# Altium schematic symbol library ToradexMainBoard-V0I1.SCHLIB: 303 symbols (part 10 of 14)
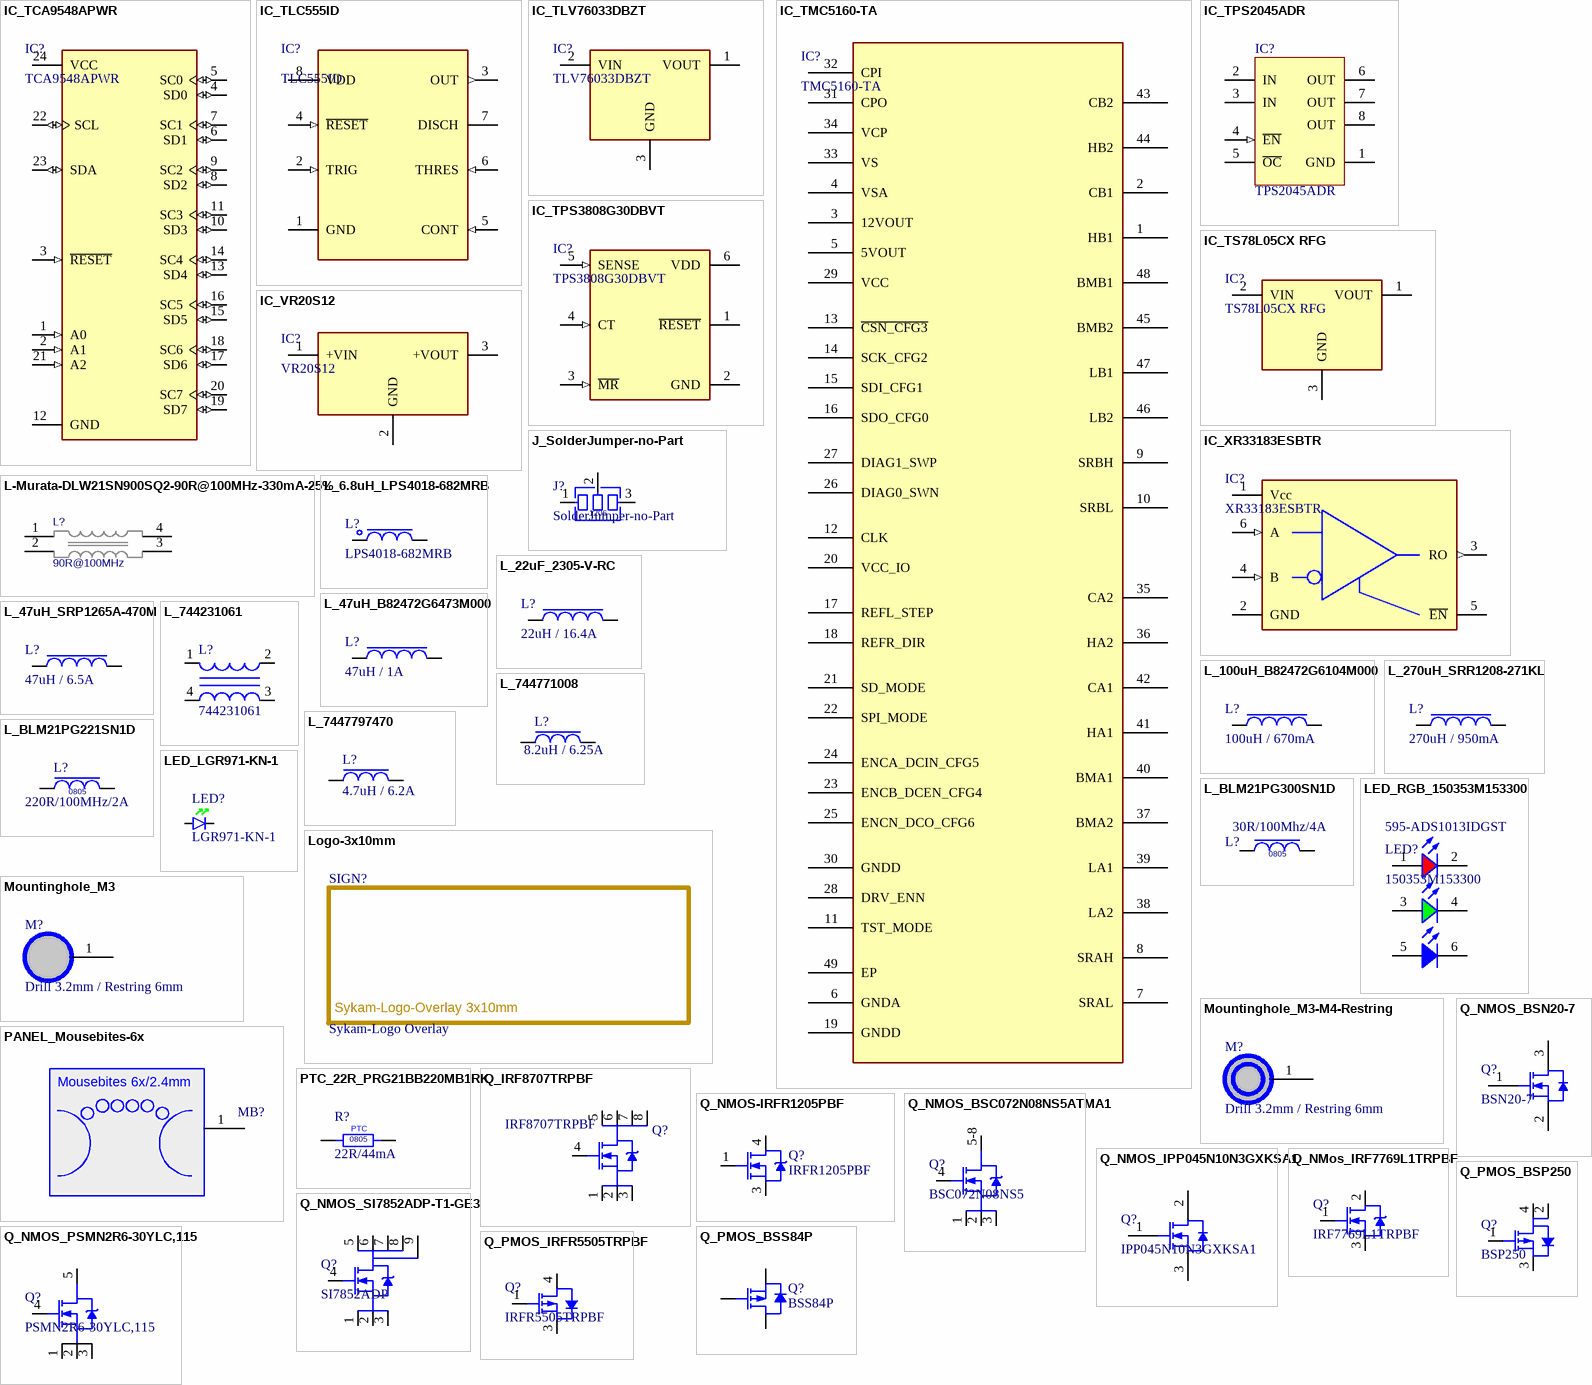
[diagram p24: symbols IC_TCA9548APWR to Q_PMOS_IRFR5505TRPBF]

## L_47uH_SRP1265A-470M
designator L?, comment 47uH / 6.5A
FIXED IND 47UH 6.5A 90 MOHM SMD; Manufacturer: Bourns; Manufacturer Part Number: SRP1265A-470M; Core Material: Ferrite,Carbonyl Powder; Saturation Current: 9.5A; Shielding: Shielded; DC Resistance (DCR): 90mR; Self Resonant Frequency: 4MHz; Test Frequency: 100kHz; Tolerance: 20%; Q Factor: 20; Supplier 1: Farnell; RoHS: Yes; Category: Fixed Inductors; Stock 1: 517; Pricing 1: 1=1,70000, 10=1,24000, 50=1,05000, 100=0,94300, 200=0,81000, 500=0,79900, 2500=0,76500 (EUR); Mount: Surface Mount; Case/Package: Nonstandard; Min Operating Temperature: -40°C; Max Operating Temperature: 150°C; Resistor Type: Wirewound; Inductance: 47uH; Current Rating: 6.5A; RMS Current (Irms): 6.5A; Max DC Current: 6.5A; Termination: SMD/SMT; Packaging: Tape and Reel; Inductance Tolerance: 20%; Package Quantity: 500; Length: 13.5mm; Width: 12.5mm; Height: 6.2mm; Height - Seated (Max): 0.252inch; Depth: 12.5mm; Ratings: AEC-Q200; REACH SVHC: No SVHC; ComponentLink1URL: https://datasheet.ciiva.com/48684/srp1265a-48684885.pdf?src-supplier=Avnet; ComponentLink1Description: https://datasheet.ciiva.com/48684/srp1265a-48684885.pdf?src-supplier=Avnet; ComponentLink2URL: https://datasheet.ciiva.com/46437/1828825-46437462.pdf?src-supplier=Element14; ComponentLink2Description: https://datasheet.ciiva.com/46437/1828825-46437462.pdf?src-supplier=Element14; Supplier Part Number 1: 2434080
footprint L_SRP1265A
pins: 1, 2

## L_100uH_B82472G6104M000
designator L?, comment 100uH / 670mA
EPCOS         B82472G6104M000             Surface Mount Power Inductor, B82472G6 Series, 100 H, 670 mA, 550 mA, Shielded, 0.39 ohm; Manufacturer: TDK EPCOS; Core Material: Ferrite; Tolerance: 20%; DC Resistance (DCR): 390mR; Test Frequency: 100kHz; Saturation Current: 550mA; Supplier 1: Farnell; Manufacturer Part Number: B82472G6104M000; RoHS: Yes; Category: Fixed Inductors; Stock 1: 2650; Pricing 1: 1=1,45000, 50=0,79700, 100=0,74200, 250=0,66900, 500=0,56800, 1000=0,48900, 5000=0,47800 (EUR); Mount: Surface Mount; Case/Package: SMD/SMT; Number of Pins: 2; Packaging: Cut Tape; Shielding: Shielded; Inductance: 100uH; DC Current: 670mA; Max DC Current: 670mA; Inductance Tolerance: 20%; RMS Current (Irms): 670mA; Inductor Type: POWER; Length: 7.5mm; Depth: 7.5mm; Military Standard: Not; REACH SVHC: No SVHC; RoHS Compliant: Yes; ComponentLink1URL: https://datasheet.ciiva.com/8003/78362-8003415.pdf?src-supplier=Element14; ComponentLink1Description: https://datasheet.ciiva.com/8003/78362-8003415.pdf?src-supplier=Element14; ComponentLink2URL: https://datasheet.ciiva.com/22700/1899161-22700807.pdf?src-supplier=Element14; ComponentLink2Description: https://datasheet.ciiva.com/22700/1899161-22700807.pdf?src-supplier=Element14; Supplier Part Number 1: 1644570
footprint L_B82472G6104M000
pins: 1, 2

## L_270uH_SRR1208-271KL
designator L?, comment 270uH / 950mA
Inductor Power Shielded Wirewound 270uH 10% 1KHz 13Q-Factor Ferrite 950mA 400mOhm DCR T/R; Manufacturer: Bourns; Manufacturer Part Number: SRR1208-271KL; Saturation Current: 1.25A; DC Resistance (DCR): 400mR; Q Factor: 13; Self Resonant Frequency: 2MHz; Supplier 1: Farnell; RoHS: Yes; Category: Fixed Inductors; Stock 1: 3; Pricing 1: 1=0,27700 (EUR); Mount: Surface Mount; Case/Package: 1208; Number of Pins: 2; Core Material: Ferrite; Min Operating Temperature: -40°C; Max Operating Temperature: 125°C; Package Quantity: 400; Current Rating: 950mA; Resistor Type: Wirewound; Inductance: 270uH; Test Frequency: 1kHz; Max DC Current: 950mA; Termination: SMD/SMT; RMS Current (Irms): 950mA; DC Current: 950mA; Inductance Tolerance: 10%; Tolerance: 10%; Packaging: Tape and Reel; Shielding: Shielded; Length: 0.5inch; Width: 0.5inch; Height: 8.5mm; Height - Seated (Max): 0.335inch; Depth: 13mm; REACH SVHC: No SVHC; Military Standard: Not; ComponentLink1URL: https://datasheet.ciiva.com/15025/srr1208-15025095.pdf?src-supplier=Digi-Key; ComponentLink1Description: https://datasheet.ciiva.com/15025/srr1208-15025095.pdf?src-supplier=Digi-Key; ComponentLink2URL: https://datasheet.ciiva.com/15025/srr1208-15025096.pdf?src-supplier=Digi-Key; ComponentLink2Description: https://datasheet.ciiva.com/15025/srr1208-15025096.pdf?src-supplier=Digi-Key; ComponentLink3URL: https://datasheet.ciiva.com/22717/1483756-22717964.pdf?src-supplier=Element14; ComponentLink3Description: https://datasheet.ciiva.com/22717/1483756-22717964.pdf?src-supplier=Element14; ComponentLink4URL: https://datasheet.ciiva.com/48684/srr1208-48684550.pdf?src-supplier=Avnet; ComponentLink4Description: https://datasheet.ciiva.com/48684/srr1208-48684550.pdf?src-supplier=Avnet; ComponentLink5URL: https://datasheet.ciiva.com/1072/srr1208-1072506.pdf?src-supplier=Digi-Key; ComponentLink5Description: https://datasheet.ciiva.com/1072/srr1208-1072506.pdf?src-supplier=Digi-Key; Supplier Part Number 1: 2333699
footprint L_SRR1208_271KL
pins: 1, 2

## L_744231061
designator L?, comment 744231061
CMC 400MA 2LN 67 OHM SMD; Manufacturer: Wurth Electronics; Core Material: Ferrite; Number of Lines: 2; Tolerance: 25%; Inductance: 22H; DC Resistance (DCR): 250mR; Test Frequency: 100MHz; Voltage Rating (DC): 50V; Impedance: 67R; Supplier 1: Farnell; Manufacturer Part Number: 744231061; RoHS: Yes; Category: Common Mode Chokes; Stock 1: 249; Pricing 1: 1=1,24000, 5=1,08000, 10=0,97900, 20=0,89800, 40=0,73400 (EUR); Mount: Surface Mount; Case/Package: 0805; Weight: 0.000423oz; Min Operating Temperature: -40°C; Max Operating Temperature: 125°C; Packaging: Tape and Reel; Package Quantity: 1; Current: 400mA; Max DC Current: 400mA; Termination: SMD/SMT; Current Rating: 400mA; Frequency: 100MHz; Voltage Rating: 50V; Resistance: 250mR; Max Current Rating: 400mA; Length: 2mm; Height: 1.2mm; Width: 1.2mm; Depth: 1.2mm; REACH SVHC: No SVHC; ComponentLink1URL: https://datasheet.ciiva.com/6216/744231061-6216464.pdf?src-supplier=Digi-Key; ComponentLink1Description: https://datasheet.ciiva.com/6216/744231061-6216464.pdf?src-supplier=Digi-Key; ComponentLink2URL: https://datasheet.ciiva.com/1467/1735607-1467970.pdf?src-supplier=Element14; ComponentLink2Description: https://datasheet.ciiva.com/1467/1735607-1467970.pdf?src-supplier=Element14; ComponentLink3URL: https://datasheet.ciiva.com/4952/744231061-89338-4952355.pdf?src-supplier=Mouser; ComponentLink3Description: https://datasheet.ciiva.com/4952/744231061-89338-4952355.pdf?src-supplier=Mouser; ComponentLink4URL: https://datasheet.ciiva.com/1562/68856-1562745.pdf?src-supplier=Newark; ComponentLink4Description: https://datasheet.ciiva.com/1562/68856-1562745.pdf?src-supplier=Newark; ComponentLink5URL: https://datasheet.ciiva.com/25631/0900766b811a4271-25631069.pdf?src-supplier=RSComponents; ComponentLink5Description: https://datasheet.ciiva.com/25631/0900766b811a4271-25631069.pdf?src-supplier=RSComponents; ComponentLink6URL: https://datasheet.ciiva.com/14187/744231061-eng-tds-14187414.pdf?src-supplier=Distrelec; ComponentLink6Description: https://datasheet.ciiva.com/14187/744231061-eng-tds-14187414.pdf?src-supplier=Distrelec; ComponentLink7URL: https://datasheet.ciiva.com/6216/744231061-6216460.pdf?src-supplier=Digi-Key; ComponentLink7Description: https://datasheet.ciiva.com/6216/744231061-6216460.pdf?src-supplier=Digi-Key; ComponentLink8URL: https://datasheet.ciiva.com/6216/744231061-6216462.pdf?src-supplier=Digi-Key; ComponentLink8Description: https://datasheet.ciiva.com/6216/744231061-6216462.pdf?src-supplier=Digi-Key; ComponentLink9URL: https://datasheet.ciiva.com/48691/001087374-da-01-ml-we-cnsw-stromk-smd-line-filter-744-de-en-48691398.pdf?src-supplier=Conrad; ComponentLink9Description: https://datasheet.ciiva.com/48691/001087374-da-01-ml-we-cnsw-stromk-smd-line-filter-744-de-en-48691398.pdf?src-supplier=Conrad; Supplier Part Number 1: 1636468
footprint WE-CNSW-0805 (SMD Inductor, 4-Leads, Body 1.4 x 2.2 mm)
pins: 1, 2, 3, 4

## L_744771008
designator L?, comment 8.2uH / 6.25A
Inductor, SMD 8.2 uH 6.25 A ±20%, 744771008, Würth Elektronik; Manufacturer: Wurth Electronics; Core Material: Ferrite; Shielding: Shielded; Self Resonant Frequency: 25MHz; Resistance: 20mR; Test Frequency: 1kHz; Supplier 1: Farnell; Manufacturer Part Number: 744771008; RoHS: Yes; Category: Fixed Inductors; Stock 1: 675; Pricing 1: 1=2,49000, 5=2,20000, 10=1,90000, 20=1,73000, 40=1,55000, 100=1,27000, 500=1,10000 (EUR); Mount: Surface Mount; Case/Package: Nonstandard; Weight: 0.01lb; Min Operating Temperature: -40°C; Max Operating Temperature: 125°C; Package Quantity: 500; Current Rating: 6.25A; Saturation Current: 6.25A; Tolerance: 20%; Packaging: Tape and Reel; Inductance Tolerance: 20%; Inductance: 8.2uH; Resistor Type: Wirewound; DC Resistance (DCR): 20mR; Max DC Current: 6.25A; Termination: SMD/SMT; RMS Current (Irms): 6.25A; Series Resistance: 20mR; Length: 12mm; Height: 6mm; Width: 12mm; Height - Seated (Max): 0.236inch; Depth: 12mm; REACH SVHC: Unknown; Lead Free: Lead Free; ComponentLink1URL: https://datasheet.ciiva.com/1052/744771008-1052275.pdf?src-supplier=Digi-Key; ComponentLink1Description: https://datasheet.ciiva.com/1052/744771008-1052275.pdf?src-supplier=Digi-Key; ComponentLink2URL: https://datasheet.ciiva.com/4954/744771008-28897-4954803.pdf?src-supplier=Mouser; ComponentLink2Description: https://datasheet.ciiva.com/4954/744771008-28897-4954803.pdf?src-supplier=Mouser; ComponentLink3URL: https://datasheet.ciiva.com/30489/0900766b81281ba3-30489743.pdf?src-supplier=RSComponents; ComponentLink3Description: https://datasheet.ciiva.com/30489/0900766b81281ba3-30489743.pdf?src-supplier=RSComponents; ComponentLink4URL: https://datasheet.ciiva.com/1052/744771008-1052276.pdf?src-supplier=Digi-Key; ComponentLink4Description: https://datasheet.ciiva.com/1052/744771008-1052276.pdf?src-supplier=Digi-Key; ComponentLink5URL: https://datasheet.ciiva.com/1052/744771008-1052277.pdf?src-supplier=Digi-Key; ComponentLink5Description: https://datasheet.ciiva.com/1052/744771008-1052277.pdf?src-supplier=Digi-Key; ComponentLink6URL: https://datasheet.ciiva.com/26307/744771008-eng-tds-26307964.pdf?src-supplier=Distrelec; ComponentLink6Description: https://datasheet.ciiva.com/26307/744771008-eng-tds-26307964.pdf?src-supplier=Distrelec; Supplier Part Number 1: 1635905
footprint 744771008-WE-PD-L (SMD Inductor, 2-Leads, Body 12.0 x 12.0 mm)
pins: 1, 2

## L_7447797470
designator L?, comment 4.7uH / 6.2A
WURTH ELEKTRONIK - 7447797470 - Power Inductor (SMD), 4.7 µH, 6.2 A, Shielded, 8 A, WE-PDF Series, 10.2mm x 10.2mm x 4.5mm - Power Inductor (SMD), 4.7 µH, 6.2 A, Shielded, 8 A, WE-PDF Series, 10.2mm x 10.2mm x 4.5mm; Manufacturer: Wurth Electronics; Core Material: Metal,Composite,Ferrite; Tolerance: 20%; Self Resonant Frequency: 45MHz; Saturation Current: 8A; DC Resistance (DCR): 19.5mR; Test Frequency: 100kHz; Max DC Current: 5.8A; Supplier 1: Farnell; Manufacturer Part Number: 7447797470; RoHS: Yes; Category: Fixed Inductors; Stock 1: 245; Pricing 1: 1=3,18000, 5=2,76000, 10=2,33000, 20=2,29000, 40=2,25000, 100=1,93000, 500=1,69000 (EUR); Mount: Surface Mount; Case/Package: Nonstandard; Min Operating Temperature: -40°C; Max Operating Temperature: 150°C; Inductance: 4.7uH; Inductance Tolerance: 20%; Package Quantity: 500; Current Rating: 6.2A; Shielding: Shielded; Packaging: Cut Tape; Resistor Type: Wirewound; RMS Current (Irms): 6.2A; Length: 0.402inch; Height: 4.5mm; Width: 0.402inch; Height - Seated (Max): 0.177inch; Depth: 10.2mm; REACH SVHC: Unknown; Lead Free: Lead Free; ComponentLink1URL: https://datasheet.ciiva.com/11803/0900766b80d8967e-11803072.pdf?src-supplier=RSComponents; ComponentLink1Description: https://datasheet.ciiva.com/11803/0900766b80d8967e-11803072.pdf?src-supplier=RSComponents; ComponentLink2URL: https://datasheet.ciiva.com/1059/7447797470-1059286.pdf?src-supplier=Digi-Key; ComponentLink2Description: https://datasheet.ciiva.com/1059/7447797470-1059286.pdf?src-supplier=Digi-Key; ComponentLink3URL: https://datasheet.ciiva.com/5975/530533-5975593.pdf?src-supplier=Farnell; ComponentLink3Description: https://datasheet.ciiva.com/5975/530533-5975593.pdf?src-supplier=Farnell; ComponentLink4URL: https://datasheet.ciiva.com/1059/7447797470-1059287.pdf?src-supplier=Digi-Key; ComponentLink4Description: https://datasheet.ciiva.com/1059/7447797470-1059287.pdf?src-supplier=Digi-Key; ComponentLink5URL: https://datasheet.ciiva.com/1059/7447797470-1059288.pdf?src-supplier=Digi-Key; ComponentLink5Description: https://datasheet.ciiva.com/1059/7447797470-1059288.pdf?src-supplier=Digi-Key; Supplier Part Number 1: 1800270
footprint 7447797470-WE-PDF-1045 (SMD Inductor, 2-Leads, Body 10.2 x 10.2 mm)
pins: 1, 2

## L_BLM21PG221SN1D
designator L?, comment 220R/100MHz/2A
Ferrite Beads Multi-Layer 220Ohm 25% 100MHz 2A 45mOhm DCR 0805 Paper T/R; Manufacturer Part Number: BLM21PG221SN1D; Manufacturer: Murata; Material: Ferrite,Steel; Shielding: Unshielded; Number of Circuits: 1; DC Resistance (DCR): 45mR; Impedance: 220R; PCBChecked: initials after Checked; Supplier 1: Digi-Key; RoHS: Yes; Category: Ferrite Beads and Chips; Case/Package: 0805; Number of Pins: 2; Case Code (Imperial): 0805; Core Material: Ferrite; Contact Plating: Tin,Matte; Case Code (Metric): 2012; Min Operating Temperature: -55°C; Max Operating Temperature: 125°C; Frequency: 100MHz; Number of Lines: 1; Max DC Current: 2A; Termination: SMD/SMT; Test Frequency: 100MHz; DC Current: 2A; Military Standard: Not; Current: 2A; Package Quantity: 1; Tolerance: 25%; Max Current Rating: 2A; Packaging: Tape and Reel; Current Rating: 2A; Length: 2mm; Height: 0.85mm; Depth: 1.25mm; Width: 1.25mm; Radiation Hardening: No; Lead Free: Lead Free; REACH SVHC: No SVHC; ComponentLink1URL: https://datasheet.ciiva.com/1012/l0110s0100blm21p-1012288.pdf?src-supplier=Digi-Key; ComponentLink1Description: https://datasheet.ciiva.com/1012/l0110s0100blm21p-1012288.pdf?src-supplier=Digi-Key; ComponentLink2URL: https://datasheet.ciiva.com/11799/0900766b81275e31-11799232.pdf?src-supplier=RSComponents; ComponentLink2Description: https://datasheet.ciiva.com/11799/0900766b81275e31-11799232.pdf?src-supplier=RSComponents; ComponentLink3URL: https://datasheet.ciiva.com/30514/1845321-30514028.pdf?src-supplier=Jameco; ComponentLink3Description: https://datasheet.ciiva.com/30514/1845321-30514028.pdf?src-supplier=Jameco; ComponentLink4URL: https://datasheet.ciiva.com/29348/442529-da-01-en-chip-drossel-0805-220r-2000ma-2-0x1-25mm-29348007.pdf?src-supplier=Conrad; ComponentLink4Description: https://datasheet.ciiva.com/29348/442529-da-01-en-chip-drossel-0805-220r-2000ma-2-0x1-25mm-29348007.pdf?src-supplier=Conrad; ComponentLink5URL: https://datasheet.ciiva.com/1012/l0110s0100blm21p-1012289.pdf?src-supplier=Digi-Key; ComponentLink5Description: https://datasheet.ciiva.com/1012/l0110s0100blm21p-1012289.pdf?src-supplier=Digi-Key; ComponentLink6URL: https://datasheet.ciiva.com/16215/l0110s0100blm21p-16215194.pdf?src-supplier=Future+Electronics; ComponentLink6Description: https://datasheet.ciiva.com/16215/l0110s0100blm21p-16215194.pdf?src-supplier=Future+Electronics; ComponentLink7URL: https://datasheet.ciiva.com/8021/1756152-8021598.pdf?src-supplier=Element14; ComponentLink7Description: https://datasheet.ciiva.com/8021/1756152-8021598.pdf?src-supplier=Element14; ComponentLink8URL: https://datasheet.ciiva.com/14122/anblm21p-data-e-14122214.pdf?src-supplier=Distrelec; ComponentLink8Description: https://datasheet.ciiva.com/14122/anblm21p-data-e-14122214.pdf?src-supplier=Distrelec; ComponentLink9URL: https://datasheet.ciiva.com/3081/l0110s0100blm21p-3081655.pdf?src-supplier=Avnet; ComponentLink9Description: https://datasheet.ciiva.com/3081/l0110s0100blm21p-3081655.pdf?src-supplier=Avnet; ComponentLink10URL: https://datasheet.ciiva.com/8021/1756152-8021596.pdf?src-supplier=Element14; ComponentLink10Description: https://datasheet.ciiva.com/8021/1756152-8021596.pdf?src-supplier=Element14; Supplier Part Number 1: 490-1054-6-ND; Stock 1: 868092; IPC7352C: done; SCHChecked: Initials after checked
footprint L0805 (Chip Inductor, 2-Leads, Body 2,00x1,25mm, IPC Medium Density)
pins: 1, 2

## L_BLM21PG300SN1D
designator L?, comment 30R/100Mhz/4A
Ferrite Beads Multi-Layer 30Ohm 100MHz 4A 14mOhm DCR 0805 T/R; Manufacturer Part Number: BLM21PG300SN1D; Manufacturer: Murata; Material: Steel,Ferrite; Resistance: 15mR; Tolerance: 25%; Impedance: 30R; Shielding: Unshielded; Number of Circuits: 1; DC Resistance (DCR): 14mR; Max DC Current: 3A; PCBChecked: initials after Checked; Supplier 1: Digi-Key; RoHS: Yes; Category: Ferrite Beads and Chips; Case/Package: 0805; Number of Pins: 2; Core Material: Ferrite; Case Code (Metric): 2012; Case Code (Imperial): 0805; Min Operating Temperature: -55°C; Max Operating Temperature: 125°C; Frequency: 100MHz; Packaging: Tape and Reel; Package Quantity: 1; Max Current Rating: 4A; Number of Lines: 1; Termination: SMD/SMT; Test Frequency: 100MHz; DC Current: 3A; Military Standard: Not; Current Rating: 4A; Length: 2mm; Height: 0.85mm; Width: 1.25mm; Depth: 1.25mm; Radiation Hardening: No; Lead Free: Lead Free; REACH SVHC: No SVHC; ComponentLink1URL: https://datasheet.ciiva.com/11795/0900766b80021a8e-11795584.pdf?src-supplier=RSComponents; ComponentLink1Description: https://datasheet.ciiva.com/11795/0900766b80021a8e-11795584.pdf?src-supplier=RSComponents; ComponentLink2URL: https://datasheet.ciiva.com/19460/1845339-19460237.pdf?src-supplier=Jameco; ComponentLink2Description: https://datasheet.ciiva.com/19460/1845339-19460237.pdf?src-supplier=Jameco; ComponentLink3URL: https://datasheet.ciiva.com/25903/l0110s0100blm21p-25903510.pdf?src-supplier=Avnet+Europe; ComponentLink3Description: https://datasheet.ciiva.com/25903/l0110s0100blm21p-25903510.pdf?src-supplier=Avnet+Europe; ComponentLink4URL: https://datasheet.ciiva.com/3081/l0110s0100blm21p-3081657.pdf?src-supplier=Avnet; ComponentLink4Description: https://datasheet.ciiva.com/3081/l0110s0100blm21p-3081657.pdf?src-supplier=Avnet; ComponentLink5URL: https://datasheet.ciiva.com/16199/l0110s0100blm21p-16199625.pdf?src-supplier=Future+Electronics; ComponentLink5Description: https://datasheet.ciiva.com/16199/l0110s0100blm21p-16199625.pdf?src-supplier=Future+Electronics; ComponentLink6URL: https://datasheet.ciiva.com/3081/l0110s0100blm21p-3081658.pdf?src-supplier=Avnet; ComponentLink6Description: https://datasheet.ciiva.com/3081/l0110s0100blm21p-3081658.pdf?src-supplier=Avnet; ComponentLink7URL: https://datasheet.ciiva.com/6212/l0110s0100blm21p-6212358.pdf?src-supplier=Digi-Key; ComponentLink7Description: https://datasheet.ciiva.com/6212/l0110s0100blm21p-6212358.pdf?src-supplier=Digi-Key; ComponentLink8URL: https://datasheet.ciiva.com/6212/l0110s0100blm21p-6212360.pdf?src-supplier=Digi-Key; ComponentLink8Description: https://datasheet.ciiva.com/6212/l0110s0100blm21p-6212360.pdf?src-supplier=Digi-Key; ComponentLink9URL: https://datasheet.ciiva.com/8021/1756152-8021599.pdf?src-supplier=Element14; ComponentLink9Description: https://datasheet.ciiva.com/8021/1756152-8021599.pdf?src-supplier=Element14; ComponentLink10URL: https://datasheet.ciiva.com/41449/001172365-da-01-en-drossel-0805-30r0-2-0x1-25mm-4000st-41449606.pdf?src-supplier=Conrad; ComponentLink10Description: https://datasheet.ciiva.com/41449/001172365-da-01-en-drossel-0805-30r0-2-0x1-25mm-4000st-41449606.pdf?src-supplier=Conrad; Supplier Part Number 1: 490-1052-1-ND; Stock 1: 88452; IPC7352C: done; SCHChecked: Initials after checked
footprint L0805 (Chip Inductor, 2-Leads, Body 2,00x1,25mm, IPC Medium Density)
pins: 1, 2

## LED_LGR971-KN-1
designator LED?, comment LGR971-KN-1
LED Uni-Color Green 572nm 2-Pin SMD T/R; Manufacturer: Osram Opto; Lens Color: White; Test Current: 20mA; Dominant Wavelength: 570nm; Lens Transparency: Diffused; Luminous Flux: 0.1lm; Number of Elements: 1; Power Dissipation: 65mW; Forward Current: 25mA; Forward Voltage: 2.2V; Lens Style: Diffused,Flat,Colorless,Rectangular; Luminous Intensity: 45mcd; Viewing Angle: 160°; Reverse Voltage: 12V; Lens Size: 1.25mm; Supplier 1: Digi-Key; Manufacturer Part Number: LGR971-KN-1; RoHS: Yes; Category: LEDs; Stock 1: 89127; Pricing 1: 1=0,26000, 10=0,19100, 100=0,09050, 500=0,06036, 1000=0,04728 (USD); Mount: Surface Mount; Case/Package: 0805; Number of Pins: 2; Case Code (Metric): 2012; Color: Green; Case Code (Imperial): 0805; Min Operating Temperature: -30°C; Max Operating Temperature: 85°C; Packaging: Tape and Reel; Package Quantity: 1; Illumination Color: Green; Number of LEDs: 1; Length: 2.1mm; Height: 0.9mm; Depth: 1.35mm; Width: 1.25mm; Radiation Hardening: No; ComponentLink1URL: https://datasheet.ciiva.com/15198/getdatasheetpartid-233880-15198360.pdf?src-supplier=Verical; ComponentLink1Description: https://datasheet.ciiva.com/15198/getdatasheetpartid-233880-15198360.pdf?src-supplier=Verical; ComponentLink2URL: https://datasheet.ciiva.com/15198/getdatasheetpartid-462214-15198395.pdf?src-supplier=Verical; ComponentLink2Description: https://datasheet.ciiva.com/15198/getdatasheetpartid-462214-15198395.pdf?src-supplier=Verical; ComponentLink3URL: https://datasheet.ciiva.com/4688/g-r971-221296-4688589.pdf?src-supplier=Mouser; ComponentLink3Description: https://datasheet.ciiva.com/4688/g-r971-221296-4688589.pdf?src-supplier=Mouser; ComponentLink4URL: https://datasheet.ciiva.com/14918/00078860-0-14918604.pdf?src-supplier=Digi-Key; ComponentLink4Description: https://datasheet.ciiva.com/14918/00078860-0-14918604.pdf?src-supplier=Digi-Key; ComponentLink5URL: https://datasheet.ciiva.com/14918/00078860-0-14918605.pdf?src-supplier=Digi-Key; ComponentLink5Description: https://datasheet.ciiva.com/14918/00078860-0-14918605.pdf?src-supplier=Digi-Key; ComponentLink6URL: https://datasheet.ciiva.com/14918/00078860-0-14918606.pdf?src-supplier=Digi-Key; ComponentLink6Description: https://datasheet.ciiva.com/14918/00078860-0-14918606.pdf?src-supplier=Digi-Key; Supplier Part Number 1: 475-1410-1-ND
footprint LED0805 (Chip Resistor, 2-Leads, Body 2,00x1,25mm, IPC Medium Density)
pins: 1K K, 2A A

## LED_RGB_150353M153300
designator LED?, comment 150353M153300  Supplier Part Number 2: 595-ADS1013IDGST
IC ADC 12BIT I2C W/REF 10-MSOP; Manufacturer: Wurth Electronics; Color: Blue,Green,Red; Lens Style: Round,Flat; Lens Transparency: Diffused; Luminous Intensity: 400mcd; Forward Voltage: 3.2V; Test Current: 20mA; Viewing Angle: 120°; Dominant Wavelength: 470nm; Max Supply Voltage: 5.5V; Min Supply Voltage: 2V; Operating Supply Voltage: 3.3V; Number of Channels: 1; Max Power Dissipation: 900uW; Resolution: 12b; Number of Bits: 12; Sampling Rate: 3.3KS/s; Polarity: Bipolar; Integral Nonlinearity (INL): 0.5LSB; Supply Type: Single; Conversion Rate: 3300S/s; Nominal Supply Current: 150uA; Input Type: SINGLE-ENDED; Supplier 1: Farnell; Manufacturer Part Number: 150353M153300; RoHS: No; Category: LEDs; Stock 1: 547; Pricing 1: 1=0,58200, 10=0,50900, 25=0,47700, 50=0,44400, 100=0,41200, 500=0,36500 (EUR); Mount: Surface Mount; Case/Package: SMD/SMT; Packaging: Tape and Reel; Length: 3.52mm; Width: 3.5mm; Height: 2.9mm; ComponentLink1URL: http://www.farnell.com/datasheets/2621664.pdf?src-supplier=Farnell; ComponentLink1Description: http://www.farnell.com/datasheets/2621664.pdf?src-supplier=Farnell; ComponentLink2URL: http://www.farnell.com/datasheets/2621664.pdf?src-supplier=Newark; ComponentLink2Description: http://www.farnell.com/datasheets/2621664.pdf?src-supplier=Newark; ComponentLink3URL: https://katalog.we-online.de/pbs/datasheet/150353M153300.pdf?src-supplier=Digi-Key; ComponentLink3Description: https://katalog.we-online.de/pbs/datasheet/150353M153300.pdf?src-supplier=Digi-Key; Supplier Part Number 1: 2900782; Supplier 2: Mouser; Stock 2: 237; Number of Pins: 10; Contact Plating: Gold; Min Operating Temperature: -40°C; Max Operating Temperature: 125°C; Package Quantity: 250; Interface: I2C; Number of Converters: 1; Number of A/D Converters: 1; Number of Elements: 1; Termination: SMD/SMT; Number of Inputs: 1; Max Supply Voltage (DC): 5.5V; Min Supply Voltage (DC): 2V; Power Dissipation: 900uW; Supply Current: 150uA; Radiation Hardening: No; REACH SVHC: No SVHC; Lead Free: Lead Free; RoHS Compliant: Yes; ComponentLink4URL: https://datasheet.ciiva.com/1704/1788973-1704229.pdf?src-supplier=Element14; ComponentLink4Description: https://datasheet.ciiva.com/1704/1788973-1704229.pdf?src-supplier=Element14; ComponentLink5URL: https://datasheet.ciiva.com/1502/ads1015-1502120.pdf?src-supplier=Farnell; ComponentLink5Description: https://datasheet.ciiva.com/1502/ads1015-1502120.pdf?src-supplier=Farnell; ComponentLink6URL: https://datasheet.ciiva.com/1260/ads1013-1260586.pdf?src-supplier=Digi-Key; ComponentLink6Description: https://datasheet.ciiva.com/1260/ads1013-1260586.pdf?src-supplier=Digi-Key; ComponentLink7URL: https://datasheet.ciiva.com/1260/ads1013-1260587.pdf?src-supplier=Digi-Key; ComponentLink7Description: https://datasheet.ciiva.com/1260/ads1013-1260587.pdf?src-supplier=Digi-Key; ComponentLink8URL: https://datasheet.ciiva.com/1260/ads1013-1260588.pdf?src-supplier=Digi-Key; ComponentLink8Description: https://datasheet.ciiva.com/1260/ads1013-1260588.pdf?src-supplier=Digi-Key
footprint LED-RGB-WL-SFTD_3535 (SMD Full-color Top LED Diffused, body 3.7x3.5mm)
pins: 1 A, 2 K, 3 A, 4 K, 5 A, 6 K

## Logo-3x10mm
designator SIGN?, comment Sykam-Logo Overlay  (no BOM)
Sykam Logo im Overlay
footprint Logo-Sykam_3x10mm (Logo Sykam GmbH in Overlay)
text: Sykam-Logo-Overlay 3x10mm

## Mountinghole_M3
designator M?, comment Drill 3.2mm / Restring 6mm  (no BOM)
footprint Mountingholes_M3_ZylKS_Plated (M3)
pins: 1

## Mountinghole_M3-M4-Restring
designator M?, comment Drill 3.2mm / Restring 6mm  (no BOM)
footprint Mountingholes_M3-4_ZylKS_NotPlated
pins: 1

## PANEL_Mousebites-6x
designator MB?, comment Mousebites-6x  (value not drawn)  (no BOM)
footprint Panel_Mousebits-6
pins: 1
text: Mousebites 6x/2.4mm

## PTC_22R_PRG21BB220MB1RK
designator R?, comment 22R/44mA
Thermistor PTC 22 Ohm 20% 2-Pin 0805 Surface Mount Solder Pad T/R; Manufacturer Part Number: PRG21BB220MB1RK; Manufacturer: Murata; Resistance: 22R; Current Rating: 110mA; Voltage: 20V; Max Current Rating: 1.1A; Hold Current: 30mA; Supplier 1: Digi-Key; RoHS: Yes; Category: PTC Resettable Fuses; Mount: Surface Mount; Case/Package: 0805; Number of Pins: 2; Case Code (Metric): 2012; Case Code (Imperial): 0805; Min Operating Temperature: -10°C; Max Operating Temperature: 60°C; Packaging: Tape and Reel; Package Quantity: 3000; Termination: SMD/SMT; Tolerance: 20%; Trip Current: 110mA; Length: 2mm; Height: 1.25mm; Depth: 1.25mm; Width: 800um; Radiation Hardening: No; Lead Free: Lead Free; ComponentLink1URL: https://datasheet.ciiva.com/30488/0900766b81259d6c-30488304.pdf?src-supplier=RSComponents; ComponentLink1Description: https://datasheet.ciiva.com/30488/0900766b81259d6c-30488304.pdf?src-supplier=RSComponents; ComponentLink2URL: https://datasheet.ciiva.com/16477/prf18bc471qb1rb-16477217.pdf?src-supplier=Future+Electronics; ComponentLink2Description: https://datasheet.ciiva.com/16477/prf18bc471qb1rb-16477217.pdf?src-supplier=Future+Electronics; ComponentLink3URL: https://datasheet.ciiva.com/325/pthat15-325994.pdf?src-supplier=Digi-Key; ComponentLink3Description: https://datasheet.ciiva.com/325/pthat15-325994.pdf?src-supplier=Digi-Key; ComponentLink4URL: https://datasheet.ciiva.com/3280/r90e-3280581.pdf?src-supplier=Avnet; ComponentLink4Description: https://datasheet.ciiva.com/3280/r90e-3280581.pdf?src-supplier=Avnet; ComponentLink5URL: https://datasheet.ciiva.com/325/pthat15-325995.pdf?src-supplier=Digi-Key; ComponentLink5Description: https://datasheet.ciiva.com/325/pthat15-325995.pdf?src-supplier=Digi-Key; ComponentLink6URL: https://datasheet.ciiva.com/325/pthat15-325996.pdf?src-supplier=Digi-Key; ComponentLink6Description: https://datasheet.ciiva.com/325/pthat15-325996.pdf?src-supplier=Digi-Key; ComponentLink7URL: https://datasheet.ciiva.com/16634/r90e-16634335.pdf?src-supplier=Avnet+Europe; ComponentLink7Description: https://datasheet.ciiva.com/16634/r90e-16634335.pdf?src-supplier=Avnet+Europe; Supplier Part Number 1: 490-3989-1-ND; Stock 1: 3347
footprint R-PTC-0805 (Chip Resistor, 2-Leads, Body 2,00x1,25mm, IPC Medium Density)
pins: 1, 2
text: PTC

## Q_IRF8707TRPBF
designator Q?, comment IRF8707TRPBF
MOSFET N-CH 30V 11A 8-SOIC; Manufacturer: International Rectifier; Gate to Source Voltage (Vgs): 20V; Turn-On Delay Time: 6.7ns; Turn-Off Delay Time: 7.3ns; Fall Time: 4.4ns; Rise Time: 7.9ns; On-State Resistance: 11.9MR; Max Power Dissipation: 2.5W; Drain to Source Resistance: 17.5mR; Threshold Voltage: 1.8V; Number of Elements: 1; Input Capacitance: 760pF; Supplier 1: Farnell; Manufacturer Part Number: IRF8707TRPBF; RoHS: Yes; Category: MOSFETs; Stock 1: 1365; Pricing 1: 5=0,48600, 10=0,36900, 100=0,21900, 250=0,20900, 500=0,19800, 1000=0,16000, 5000=0,15700 (EUR); Mount: Surface Mount; Case/Package: SOIC; Number of Pins: 8; Min Operating Temperature: -55°C; Max Operating Temperature: 150°C; Drain to Source Voltage (Vdss): 30V; Continuous Drain Current (ID): 11A; Drain to Source Breakdown Voltage: 30V; Power Dissipation: 2.5W; Packaging: Tape and Reel; Package Quantity: 1; Rds On Max: 11.9mR; Nominal Vgs: 1.8V; Length: 5mm; Height: 1.5mm; Width: 4mm; Radiation Hardening: No; Lead Free: Lead Free; REACH SVHC: No SVHC; ComponentLink1URL: https://datasheet.ciiva.com/6382/irf8707pbf-6382832.pdf?src-supplier=Digi-Key; ComponentLink1Description: https://datasheet.ciiva.com/6382/irf8707pbf-6382832.pdf?src-supplier=Digi-Key; ComponentLink2URL: https://datasheet.ciiva.com/26790/irf8707trpbf-26790830.pdf?src-supplier=IIIC; ComponentLink2Description: https://datasheet.ciiva.com/26790/irf8707trpbf-26790830.pdf?src-supplier=IIIC; ComponentLink3URL: https://datasheet.ciiva.com/7870/28224-7870519.pdf?src-supplier=Element14; ComponentLink3Description: https://datasheet.ciiva.com/7870/28224-7870519.pdf?src-supplier=Element14; ComponentLink4URL: https://datasheet.ciiva.com/8116/irf8707pbf-8116344.pdf?src-supplier=Avnet; ComponentLink4Description: https://datasheet.ciiva.com/8116/irf8707pbf-8116344.pdf?src-supplier=Avnet; ComponentLink5URL: https://datasheet.ciiva.com/16369/irf8707pbf-16369518.pdf?src-supplier=Future+Electronics; ComponentLink5Description: https://datasheet.ciiva.com/16369/irf8707pbf-16369518.pdf?src-supplier=Future+Electronics; ComponentLink6URL: https://datasheet.ciiva.com/6382/irf8707pbf-6382827.pdf?src-supplier=Digi-Key; ComponentLink6Description: https://datasheet.ciiva.com/6382/irf8707pbf-6382827.pdf?src-supplier=Digi-Key; ComponentLink7URL: https://datasheet.ciiva.com/6382/irf8707pbf-6382830.pdf?src-supplier=Digi-Key; ComponentLink7Description: https://datasheet.ciiva.com/6382/irf8707pbf-6382830.pdf?src-supplier=Digi-Key; Supplier Part Number 1: 2725922
footprint IRF8707_SOIC8 (IRF8707PbF)
pins: 1 S, 2 S, 3 S, 4 G, 5 D, 6 D, 7 D, 8 D

## Q_NMOS-IRFR1205PBF
designator Q?, comment IRFR1205PBF
HEXFET(R) Power MOSFET, 55 V, 44 A, 27 mOhm, -55 to 175 degC, 3-Pin DPAK (TO-252AA), RoHS, Tube; Manufacturer: International Rectifier; Drain-to-Source Voltage [Vdss]: 55V; Rated Power Dissipation: 107W; Channel Type: N-Channel; Qg Gate Charge: 65nC; Drain-Source On Resistance-Max: 0.027O; Mounting Technology: SurfaceMount; Package Reference: TO-252AA-3; Datasheet URL: http://www.infineon.com/dgdl/irfr1205pbf.pdf?fileId=5546d462533600a40153562d17792047; Package Description: 3-Pin Surface Mount Device, Body 6.54 x 6.095 mm, Pitch 2.29 mm; Manufacturer URL: http://internationalrectifier.com/; Datasheet Version: 12/2004
footprint NMOS-TO-252AA-3_M (DPAK, 3-Leads, Body 6.75x6.22mm, Pitch 2.29mm, IPC Low Density)
pins: 1 G, 3 S, 4 D

## Q_NMOS_BSC072N08NS5ATMA1
designator Q?, comment BSC072N08NS5
Trans MOSFET N-CH 80V 74A Automotive 8-Pin TDSON EP T/R, PG-TDSON-8, RoHS; Manufacturer: Infineon; Manufacturer Part Number: BSC072N08NS5ATMA1; Rds On Max: 7.2mR; Input Capacitance: 2.1nF; Max Power Dissipation: 2.5W; Element Configuration: Single; Number of Channels: 1; Drain to Source Resistance: 10.4mR; Gate to Source Voltage (Vgs): 20V; Fall Time: 5ns; Rise Time: 7ns; Turn-Off Delay Time: 19ns; Turn-On Delay Time: 10ns; Supplier 1: Farnell; RoHS: Yes; Category: MOSFETs; Pricing 1: 1=2,46000, 10=2,00000, 100=1,57000, 500=1,29000 (EUR); Mount: Surface Mount; Number of Pins: 8; Weight: 0.01787oz; Min Operating Temperature: -55°C; Max Operating Temperature: 150°C; Packaging: Tape and Reel; Drain to Source Voltage (Vdss): 80V; Continuous Drain Current (ID): 74A; Package Quantity: 5000; Max Dual Supply Voltage: 80V; Lead Free: Contains Lead; Halogen Free: Halogen Free; ComponentLink1URL: http://www.mouser.com/ds/2/196/Infineon-BSC072N08NS5-DS-v02_00-EN-531318.pdf?src-supplier=Mouser; ComponentLink1Description: http://www.mouser.com/ds/2/196/Infineon-BSC072N08NS5-DS-v02_00-EN-531318.pdf?src-supplier=Mouser; ComponentLink2URL: https://www.infineon.com/dgdl/Infineon-BSC072N08NS5-DS-v02_00-EN.pdf?fileId=5546d4624ad04ef9014ae3d8e8192c7c&src-supplier=Digi-Key; ComponentLink2Description: https://www.infineon.com/dgdl/Infineon-BSC072N08NS5-DS-v02_00-EN.pdf?fileId=5546d4624ad04ef9014ae3d8e8192c7c&src-supplier=Digi-Key; Supplier Part Number 1: 2725812
footprint IFX-PG-TDSON-8-6-V (PG-TDSON-8-6, SMD, 1.27 mm pitch, 8 pin, 5.90 mm W X 5.075 mm L X 1.20 mm H body)
pins: 1 S, 2 S, 3 S, 4 G, 5-8 D

## Q_NMOS_BSN20-7
designator Q?, comment BSN20-7
DIODES INC. - BSN20-7 - Power MOSFET, N Channel, 50 V, 500 mA, 1.3 ohm, SOT-23, Surface Mount; Manufacturer: Diodes Zetex; Continuous Drain Current (ID): 500mA; Drain to Source Voltage (Vdss): 50V; Power Dissipation: 600mW; Gate to Source Voltage (Vgs): 20V; Input Capacitance: 40pF; Drain to Source Resistance: 1.8R; Element Configuration: Single; Turn-Off Delay Time: 9.45ns; Turn-On Delay Time: 2.93ns; Number of Elements: 1; Rise Time: 2.99ns; Fall Time: 8.3ns; Supplier 1: Farnell; Manufacturer Part Number: BSN20-7; RoHS: Yes; Category: MOSFETs; Stock 1: 3000; Pricing 1: 3000=0,04670, 9000=0,03870 (EUR); Mount: Surface Mount; Case/Package: SOT-23; Number of Pins: 3; Contact Plating: Tin,Matte; Weight: 0.000282oz; Min Operating Temperature: -55°C; Max Operating Temperature: 150°C; Packaging: Tape and Reel; Package Quantity: 3000; Max Power Dissipation: 600mW; Rds On Max: 1.8R; Number of Channels: 1; Length: 3mm; Width: 1.4mm; Height: 1mm; Radiation Hardening: No; Lead Free: Lead Free; REACH SVHC: No SVHC; ComponentLink1URL: https://datasheet.ciiva.com/4443/ds31898-57323-4443064.pdf?src-supplier=Mouser; ComponentLink1Description: https://datasheet.ciiva.com/4443/ds31898-57323-4443064.pdf?src-supplier=Mouser; ComponentLink2URL: https://datasheet.ciiva.com/941/ds31898-941371.pdf?src-supplier=Digi-Key; ComponentLink2Description: https://datasheet.ciiva.com/941/ds31898-941371.pdf?src-supplier=Digi-Key; ComponentLink3URL: https://datasheet.ciiva.com/11174/ds31898-11174923.pdf?src-supplier=Avnet; ComponentLink3Description: https://datasheet.ciiva.com/11174/ds31898-11174923.pdf?src-supplier=Avnet; Supplier Part Number 1: 3127575
footprint BSN20-7_SOT23
pins: 1 GATE, 2 DRAIN, 3 SOURCE

## Q_NMOS_IPP045N10N3GXKSA1
designator Q?, comment IPP045N10N3GXKSA1
Trans MOSFET N-CH 100V 100A Automotive 3-Pin(3+Tab) TO-220 Tube; Manufacturer: Infineon; Rds On Max: 4.5mR; Input Capacitance: 8.41nF; Max Power Dissipation: 214W; Rise Time: 59ns; Fall Time: 14ns; Turn-Off Delay Time: 48ns; Turn-On Delay Time: 27ns; Gate to Source Voltage (Vgs): 20V; Threshold Voltage: 2.7V; Element Configuration: Single; Supplier 1: Farnell; Manufacturer Part Number: IPP045N10N3GXKSA1; RoHS: Yes; Category: MOSFETs; Stock 1: 1122; Pricing 1: 1=2,44000, 10=1,83000, 100=1,38000, 250=1,29000, 500=1,19000, 1000=1,02000 (EUR); Case/Package: TO-220-3; Number of Pins: 3; Min Operating Temperature: -55°C; Max Operating Temperature: 175°C; Package Quantity: 500; Packaging: Rail/Tube; Drain to Source Voltage (Vdss): 100V; Continuous Drain Current (ID): 100A; Drain to Source Breakdown Voltage: 100V; Drain to Source Resistance: 4.5mR; Power Dissipation: 214W; Length: 10.36mm; Width: 4.57mm; Height: 9.45mm; Lead Free: Lead Free; REACH SVHC: No SVHC; Halogen Free: Halogen Free; ComponentLink1URL: https://datasheet.ciiva.com/11172/infineon-ipp045n10n3g-ds-v02-05-en-11172359.pdf?src-supplier=Avnet; ComponentLink1Description: https://datasheet.ciiva.com/11172/infineon-ipp045n10n3g-ds-v02-05-en-11172359.pdf?src-supplier=Avnet; Supplier Part Number 1: 2443404
footprint TO220-3 (FM, 3-Leads, Body 10.03x8.98mm, Pitch 2.54mm)
pins: 1 GATE, 2 DRAIN, 3 SOURCE

## Q_NMos_IRF7769L1TRPBF
designator Q?, comment IRF7769L1TRPBF
IRF7769L1TRPBF N-Channel MOSFET, 124 A, 100 V DirectFET, HEXFET, 9 + Tab-Pin L8 Infineon; Manufacturer: International Rectifier; Continuous Drain Current (ID): 124A; Drain to Source Voltage (Vdss): 100V; Max Power Dissipation: 3.3W; Rds On Max: 3.5mR; Input Capacitance: 11.56nF; Rise Time: 32ns; Turn-On Delay Time: 44ns; Turn-Off Delay Time: 92ns; Fall Time: 41ns; Number of Elements: 1; Gate to Source Voltage (Vgs): 20V; Supplier 1: Farnell; Manufacturer Part Number: IRF7769L1TRPBF; RoHS: Yes; Category: MOSFETs; Stock 1: 1271; Pricing 1: 1=3,29000, 10=2,47000, 100=1,97000, 250=1,86000, 500=1,75000, 1000=1,54000 (EUR); Mount: Surface Mount; Number of Pins: 15; Min Operating Temperature: -55°C; Max Operating Temperature: 175°C; Packaging: Tape and Reel; Package Quantity: 4000; Power Dissipation: 3.3W; Radiation Hardening: No; Lead Free: Lead Free; ComponentLink1URL: https://datasheet.ciiva.com/26896/getdatasheetpartid-724826-26896052.pdf?src-supplier=Verical; ComponentLink1Description: https://datasheet.ciiva.com/26896/getdatasheetpartid-724826-26896052.pdf?src-supplier=Verical; ComponentLink2URL: https://datasheet.ciiva.com/15043/irf7769l1pbf-15043674.pdf?src-supplier=Digi-Key; ComponentLink2Description: https://datasheet.ciiva.com/15043/irf7769l1pbf-15043674.pdf?src-supplier=Digi-Key; ComponentLink3URL: https://datasheet.ciiva.com/41808/irf7769l1pbf-41808797.pdf?src-supplier=Digi-Key; ComponentLink3Description: https://datasheet.ciiva.com/41808/irf7769l1pbf-41808797.pdf?src-supplier=Digi-Key; Supplier Part Number 1: 2725914
footprint DirectFET-L8
pins: 1 G, 2 D, 3 D

## Q_NMOS_PSMN2R6-30YLC,115
designator Q?, comment PSMN2R6-30YLC,115
PSMN2R6-30YLC - N-channel 30 V 2.8 mΩ logic level MOSFET in LFPAK using NextPower technology; Manufacturer: Nexperia; Supplier 1: Farnell; Manufacturer Part Number: PSMN2R6-30YLC,115; Stock 1: 1500; Pricing 1: 1=0,65800, 10=0,52700, 100=0,41600, 250=0,38700, 500=0,35600, 1000=0,29800, 5000=0,28500 (EUR); ComponentLink1URL: http://datasheet.octopart.com/PSMN2R6-30YLC%2C115-Nexperia-datasheet-87582230.pdf?src-supplier=Nexperia; ComponentLink1Description: http://datasheet.octopart.com/PSMN2R6-30YLC%2C115-Nexperia-datasheet-87582230.pdf?src-supplier=Nexperia; ComponentLink2URL: http://datasheet.octopart.com/PSMN2R6-30YLC%2C115-Nexperia-datasheet-10409835.pdf?src-supplier=Upverter; ComponentLink2Description: http://datasheet.octopart.com/PSMN2R6-30YLC%2C115-Nexperia-datasheet-10409835.pdf?src-supplier=Upverter; ComponentLink3URL: http://datasheet.octopart.com/PSMN2R6-30YLC%2C115-Nexperia-datasheet-78818593.pdf?src-supplier=Future+Electronics; ComponentLink3Description: http://datasheet.octopart.com/PSMN2R6-30YLC%2C115-Nexperia-datasheet-78818593.pdf?src-supplier=Future+Electronics; ComponentLink4URL: http://datasheet.octopart.com/PSMN2R6-30YLC%2C115-NXP-Semiconductors-datasheet-11789213.pdf?src-supplier=Arrow+Electronics; ComponentLink4Description: http://datasheet.octopart.com/PSMN2R6-30YLC%2C115-NXP-Semiconductors-datasheet-11789213.pdf?src-supplier=Arrow+Electronics; Supplier Part Number 1: 3440108
footprint PSMN2R6-LFPAK_SOT669 (DPAK, 4-Leads, Body 5x4.1mm, Pitch 1.27mm, IPC Medium Density)
pins: 1 D, 2 D, 3 D, 4 G, 5 D

## Q_NMOS_SI7852ADP-T1-GE3
designator Q?, comment SI7852ADP
MOSFET N-CH 80V 30A PPAK SO-8; Manufacturer: Vishay Siliconix; Manufacturer Part Number: SI7852ADP-T1-GE3; Rise Time: 9ns; Rds On Max: 17mR; Input Capacitance: 1.825nF; Continuous Drain Current (ID): 12A; Max Power Dissipation: 62.5W; Gate to Source Voltage (Vgs): 20V; Turn-Off Delay Time: 26ns; Turn-On Delay Time: 16ns; Element Configuration: Single; Number of Channels: 1; Polarity: N-CHANNEL; Threshold Voltage: 4.5V; Power Dissipation: 5W; Supplier 1: Mouser; RoHS: Yes; Category: MOSFETs; Stock 1: 3670; Mount: Surface Mount; Case/Package: SOIC; Number of Pins: 8; Weight: 0.01787oz; Min Operating Temperature: -55°C; Max Operating Temperature: 150°C; Packaging: Tape and Reel; Package Quantity: 1; Drain to Source Voltage (Vdss): 80V; Drain to Source Resistance: 17mR; Fall Time: 9ns; Drain to Source Breakdown Voltage: 80V; Number of Elements: 1; On-State Resistance: 17MR; Series: TrenchFET®; Drain-source On Resistance-Max: 17MR; Length: 4.9mm; Width: 5.89mm; Height: 1.04mm; Radiation Hardening: No; RoHS Compliant: Yes; REACH SVHC: Unknown; Lead Free: Lead Free; ComponentLink1URL: https://datasheet.ciiva.com/6386/si7852ad-6386432.pdf?src-supplier=Digi-Key; ComponentLink1Description: https://datasheet.ciiva.com/6386/si7852ad-6386432.pdf?src-supplier=Digi-Key; ComponentLink2URL: https://datasheet.ciiva.com/26791/si7852adp-t1-ge3-26791882.pdf?src-supplier=IIIC; ComponentLink2Description: https://datasheet.ciiva.com/26791/si7852adp-t1-ge3-26791882.pdf?src-supplier=IIIC; ComponentLink3URL: https://datasheet.ciiva.com/16486/si7852ad-16486555.pdf?src-supplier=Future+Electronics; ComponentLink3Description: https://datasheet.ciiva.com/16486/si7852ad-16486555.pdf?src-supplier=Future+Electronics; ComponentLink4URL: https://datasheet.ciiva.com/6386/si7852ad-6386428.pdf?src-supplier=Digi-Key; ComponentLink4Description: https://datasheet.ciiva.com/6386/si7852ad-6386428.pdf?src-supplier=Digi-Key; ComponentLink5URL: https://datasheet.ciiva.com/6386/si7852ad-6386431.pdf?src-supplier=Digi-Key; ComponentLink5Description: https://datasheet.ciiva.com/6386/si7852ad-6386431.pdf?src-supplier=Digi-Key; Supplier Part Number 1: 781-SI7852ADP-T1-GE3
footprint SI7852ADP_NMOS-PowerPAK-SO-8
pins: 1 S, 2 S, 3 S, 4 G, 5 D, 6 D, 7 D, 8 D, 9 D

## Q_PMOS_BSP250
designator Q?, comment BSP250
MOSFET, P CH, 30V, 3A, SOT223; Manufacturer: NXP Semiconductors; Threshold Voltage: -1V; Max Power Dissipation: 5W; Supplier 1: Farnell; Manufacturer Part Number: BSP250; RoHS: Yes; Category: MOSFETs; Case/Package: SOT-223; Number of Pins: 4; Max Operating Temperature: 150°C; Continuous Drain Current (ID): 3A; Drain to Source Voltage (Vdss): 30V; Current: 3A; Voltage: 30V; REACH SVHC: No SVHC; ComponentLink1URL: https://datasheet.ciiva.com/17102/bsp250-17102883.pdf?src-supplier=Allied+Electronics; ComponentLink1Description: https://datasheet.ciiva.com/17102/bsp250-17102883.pdf?src-supplier=Allied+Electronics; ComponentLink2URL: https://datasheet.ciiva.com/1211/bsp250-1211480.pdf?src-supplier=Farnell; ComponentLink2Description: https://datasheet.ciiva.com/1211/bsp250-1211480.pdf?src-supplier=Farnell; Supplier Part Number 1: 1972671
footprint BSP250_SOT-223
pins: 1 G, 2 S, 3 D, 4 S

## Q_PMOS_BSS84P
designator Q?, comment BSS84P
Single P-Channel 60 V 8 Ohm 1 nC SIPMOS® Small Signal Mosfet - SOT-23; Manufacturer: Infineon; Gate to Source Voltage (Vgs): 20V; Power Dissipation: 360mW; Continuous Drain Current (ID): -170mA; Input Capacitance: 15pF; Voltage: 60V; Drain to Source Resistance: 12R; Turn-Off Delay Time: 8.6ns; Turn-On Delay Time: 6.7ns; Threshold Voltage: -1.5V; Number of Channels: 1; Supplier 1: Digi-Key; Manufacturer Part Number: BSS84P; RoHS: Yes; Category: MOSFETs; Case/Package: SOT-23; Number of Pins: 3; Min Operating Temperature: -55°C; Max Operating Temperature: 150°C; Packaging: Tape and Reel; Max Power Dissipation: 360mW; Element Configuration: Single; On-State Resistance: 12R; Nominal Vgs: -1.5V; Length: 2.9mm; Height: 0.9mm; Width: 1.3mm; Halogen Free: Halogen Free; REACH SVHC: No SVHC; ComponentLink1URL: https://datasheet.ciiva.com/1190/98914-1190307.pdf?src-supplier=Element14; ComponentLink1Description: https://datasheet.ciiva.com/1190/98914-1190307.pdf?src-supplier=Element14; ComponentLink2URL: https://datasheet.ciiva.com/14109/je611677-e-14109692.pdf?src-supplier=Distrelec; ComponentLink2Description: https://datasheet.ciiva.com/14109/je611677-e-14109692.pdf?src-supplier=Distrelec; Supplier Part Number 1: BSS84PH6327XTSA2CT-ND; Stock 1: 144419
footprint BSS84P_SOT95P240X110-3N (SOT23, 3-Leads, Body 2,90x2,40mm, Pitch 0,95mm, IPC Medium Density)
pins: 1G G, 2S D, 3D S

## Q_PMOS_IRFR5505TRPBF
designator Q?, comment IRFR5505TRPBF
MOSFET, P CH, -55V, -18A, TO-252AA-3; Transistor Polarity:P Channel; Continuous Drain Current Id:-18A; Drain Source Voltage Vds:-55V; On Resistance Rds(on):0.11ohm; Rds(on) Test Voltage Vgs:-10V; Threshold Voltage Vgs:-4V; Power Dissipation Pd:57W; Transistor Case Style:TO-252AA; No. of Pins:3; Operating Temperature Max:150°C; MSL:MSL 1 - Unlimited; SVHC:No SVHC (15-Jun-2015); Manufacturer: International Rectifier; Continuous Drain Current (ID): 18A; Fall Time: 16ns; Gate to Source Voltage (Vgs): 20V; Turn-Off Delay Time: 20ns; Turn-On Delay Time: 12ns; Rise Time: 28ns; Drain to Source Voltage (Vdss): 55V; Power Dissipation: 57W; Rds On Max: 110mR; Input Capacitance: 650pF; Number of Elements: 1; Element Configuration: Single; Nominal Vgs: -4V; Supplier 1: Farnell; Manufacturer Part Number: IRFR5505TRPBF; RoHS: Yes; Category: MOSFETs; Stock 1: 10190; Pricing 1: 1=0,89800, 10=0,68100, 100=0,49300, 250=0,45800, 500=0,42300, 1000=0,32500, 5000=0,29600 (EUR); Mount: Surface Mount; Case/Package: DPAK; Number of Pins: 3; Min Operating Temperature: -55°C; Max Operating Temperature: 150°C; Packaging: Tape and Reel; Package Quantity: 1; Max Power Dissipation: 57W; Drain to Source Resistance: 110mR; Voltage Rating (DC): -55V; Current Rating: -18A; Drain to Source Breakdown Voltage: -55V; On-State Resistance: 110mR; Threshold Voltage: -4V; Length: 6.73mm; Width: 6.22mm; Height: 2.39mm; Radiation Hardening: No; Lead Free: Lead Free; REACH SVHC: No SVHC; ComponentLink1URL: https://datasheet.ciiva.com/6382/irfr5505pbf-6382422.pdf?src-supplier=Digi-Key; ComponentLink1Description: https://datasheet.ciiva.com/6382/irfr5505pbf-6382422.pdf?src-supplier=Digi-Key; ComponentLink2URL: https://datasheet.ciiva.com/7798/irfr5505-7798823.pdf?src-supplier=Element14; ComponentLink2Description: https://datasheet.ciiva.com/7798/irfr5505-7798823.pdf?src-supplier=Element14; ComponentLink3URL: https://datasheet.ciiva.com/6382/irfr5505pbf-6382424.pdf?src-supplier=Digi-Key; ComponentLink3Description: https://datasheet.ciiva.com/6382/irfr5505pbf-6382424.pdf?src-supplier=Digi-Key; ComponentLink4URL: https://datasheet.ciiva.com/16222/irfr5505pbf-16222552.pdf?src-supplier=Future+Electronics; ComponentLink4Description: https://datasheet.ciiva.com/16222/irfr5505pbf-16222552.pdf?src-supplier=Future+Electronics; ComponentLink5URL: https://datasheet.ciiva.com/6382/irfr5505pbf-6382428.pdf?src-supplier=Digi-Key; ComponentLink5Description: https://datasheet.ciiva.com/6382/irfr5505pbf-6382428.pdf?src-supplier=Digi-Key; Supplier Part Number 1: 2468041
footprint PMOS-DPak
pins: 1 G, 3 S, 4 D

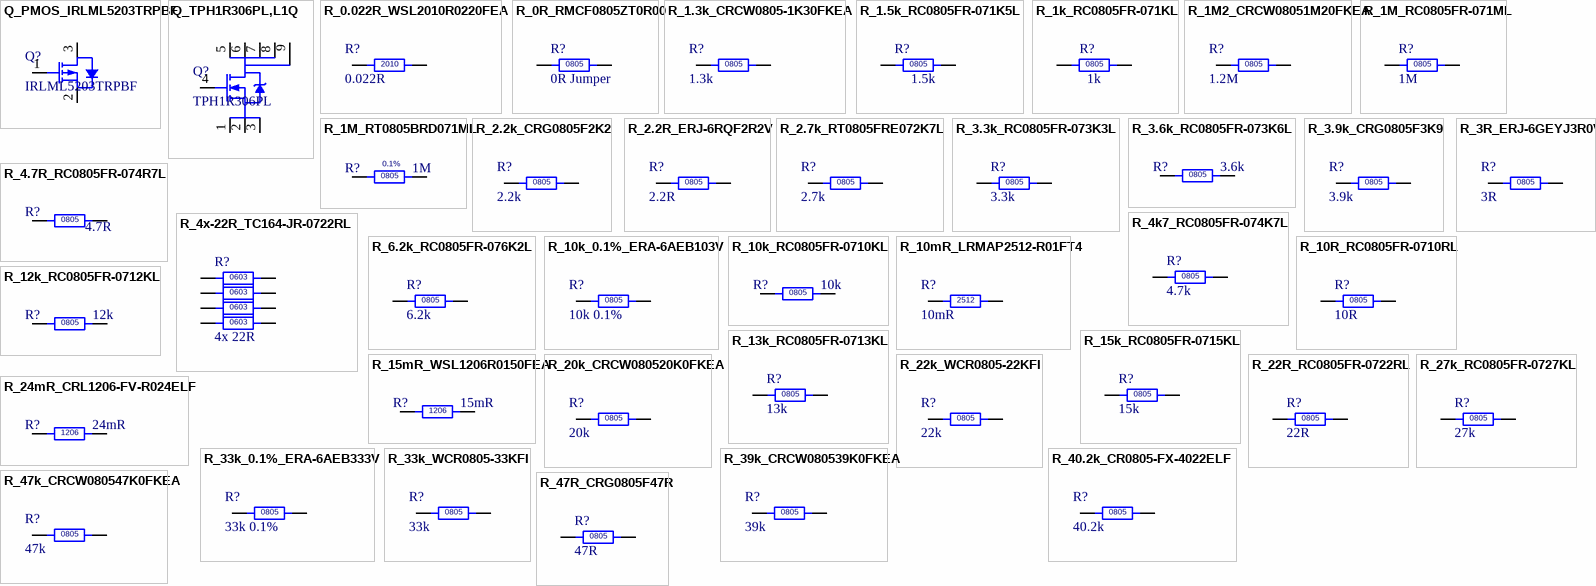
[diagram p14: symbols Q_PMOS_IRLML5203TRPBF to R_47R_CRG0805F47R]

## Q_PMOS_IRLML5203TRPBF
designator Q?, comment IRLML5203TRPBF
INFINEON - IRLML5203TRPBF - MOSFET Transistor, P Channel, -3 A, -30 V, 0.098 ohm, -10 V, -2.5 V; Drain to Source Voltage (Vdss): -30V; Continuous Drain Current (ID): 3A; Max Power Dissipation: 1.25W; Gate to Source Voltage (Vgs): 20V; Rds On Max: 98mR; Input Capacitance: 510pF; Rise Time: 18ns; Element Configuration: Single; Drain to Source Resistance: 165mR; Turn-Off Delay Time: 88ns; Turn-On Delay Time: 12ns; Threshold Voltage: -2.5V; Supplier 1: Farnell; Manufacturer: Infineon; Manufacturer Part Number: IRLML5203TRPBF; RoHS: Yes; Category: MOSFETs; Stock 1: 54858; Pricing 1: 5=0,29300, 25=0,22800, 100=0,16200, 250=0,16100, 500=0,15900, 1000=0,09450, 5000=0,08140 (EUR); Mount: Surface Mount; Case/Package: SOT-23; Number of Pins: 3; Contact Plating: Tin,Matte; Min Operating Temperature: -55°C; Max Operating Temperature: 150°C; Packaging: Tape and Reel; Power Dissipation: 1.25W; Drain to Source Breakdown Voltage: -30V; Max Dual Supply Voltage: -30V; Length: 0.119inch; Width: 0.055inch; Height: 0.04inch; REACH SVHC: No SVHC; Lead Free: Lead Free; Halogen Free: Halogen Free; ComponentLink1URL: https://www.alliedelec.com/m/d/09a4562f0d5f53db2016a9723f6a9233.pdf?src-supplier=Allied+Electronics; ComponentLink1Description: https://www.alliedelec.com/m/d/09a4562f0d5f53db2016a9723f6a9233.pdf?src-supplier=Allied+Electronics; ComponentLink2URL: http://www.farnell.com/datasheets/1911632.pdf?src-supplier=Farnell; ComponentLink2Description: http://www.farnell.com/datasheets/1911632.pdf?src-supplier=Farnell; ComponentLink3URL: http://www.farnell.com/datasheets/1911632.pdf?src-supplier=Newark; ComponentLink3Description: http://www.farnell.com/datasheets/1911632.pdf?src-supplier=Newark; ComponentLink4URL: http://www.farnell.com/datasheets/1911632.pdf?src-supplier=Element14; ComponentLink4Description: http://www.farnell.com/datasheets/1911632.pdf?src-supplier=Element14; ComponentLink5URL: http://www.irf.com/product-info/datasheets/data/irlml5203pbf.pdf?src-supplier=Avnet+Asia; ComponentLink5Description: http://www.irf.com/product-info/datasheets/data/irlml5203pbf.pdf?src-supplier=Avnet+Asia; ComponentLink6URL: https://www.infineon.com/dgdl/irlml5203pbf.pdf?fileId=5546d462533600a40153566868da261d&src-supplier=Digi-Key; ComponentLink6Description: https://www.infineon.com/dgdl/irlml5203pbf.pdf?fileId=5546d462533600a40153566868da261d&src-supplier=Digi-Key; ComponentLink7URL: http://www.infineon.com/dgdl/irlml5203pbf.pdf?fileId=5546d462533600a40153566868da261d&src-supplier=Digi-Key; ComponentLink7Description: http://www.infineon.com/dgdl/irlml5203pbf.pdf?fileId=5546d462533600a40153566868da261d&src-supplier=Digi-Key; Supplier Part Number 1: 9103511
footprint IRLML5203_SOT23
pins: 1 G, 2 S, 3 D